# Altium schematic symbol library Choke_THT.SchLib: 1 symbol
Pins are listed as number, name and electrical type; pins without a type are passive.

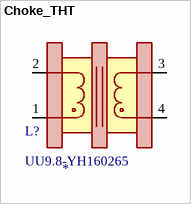
[diagram p0: symbol Choke_THT]

## Choke_THT
designator L?, comment UU9.8-YH160265
Choke_THT_30mH@1kHz 2Ω 2 Plugin  Common Mode Filters ROHS_C74371; LCSC: *
footprint Choke_THT
pins: 1, 2, 3, 4